# Altium footprint library MBR140SFT1G.PcbLib: 3 footprints
Each footprint in its own frame and in the unit in brackets; x right, y up, seen from the top. Pads: shape width x height; smd on the part's side, far side on the other; paste and mask are expansions set on the pad; w line width, h text height; cw(c..) or ccw(c..) is an arc to the next point about the centre after c.
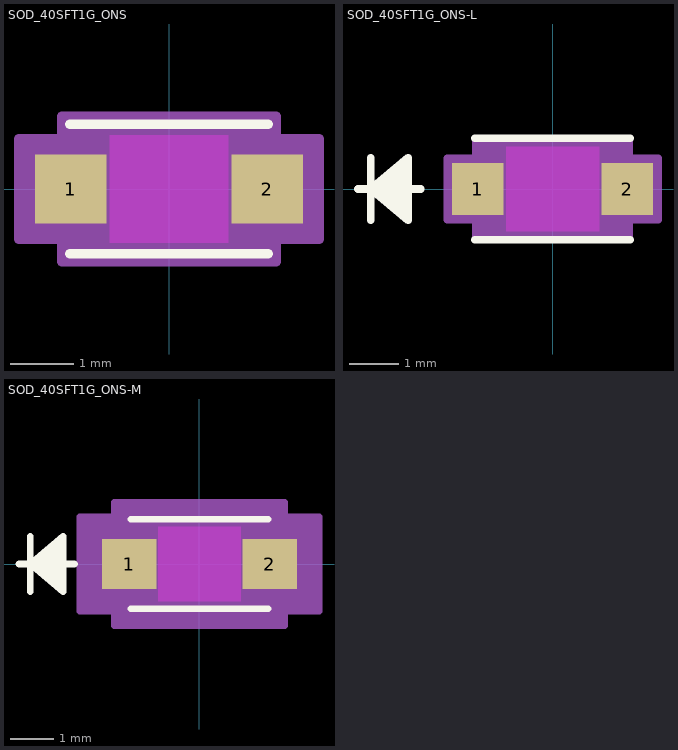
[diagram p0: the footprints below, top view; thin cyan lines are the x and y axes]

## SOD_40SFT1G_ONS [mil]
pads (2):
  rect 44.87x43 smd paste+0 mask+0: 1(-61.44,0) 2(61.44,0)
Top Layer keep-out:
  region: -37,-33.5 -37,33.5 37,33.5 37,-33.5
Top Overlay:
  lines w6: -62,-40.5 62,-40.5 ; -62,40.5 62,40.5
Keep-Out Layer:
  region: -37,-33.5 -37,33.5 37,33.5 37,-33.5
Mechanical 13:
  lines w1: -57,-17.75 -39.25,-35.5 ; -57,17.75 -39.25,35.5 ; -76,-21.5 -57,-21.5 -57,21.5 -76,21.5 -76,-21.5 ; -57,-35.5 -57,35.5 57,35.5 57,-35.5 -57,-35.5 ; 57,-21.5 76,-21.5 76,21.5 57,21.5 57,-21.5
Mechanical 15:
  region: -67,-31.5 -93.87,-31.5 -93.87,31.5 -67,31.5 -67,45.5 67,45.5 67,31.5 93.87,31.5 93.87,-31.5 67,-31.5 67,-45.5 -67,-45.5
  lines w6: -93.87,-31.5 -67,-31.5 -67,-45.5 67,-45.5 67,-31.5 93.87,-31.5 93.87,31.5 67,31.5 67,45.5 -67,45.5 -67,31.5 -93.87,31.5 -93.87,-31.5
3D body "SOD_40SFT1G_ONS.step": height 39.25, standoff 0, extent -75.98,-35.51 75.98,35.51

## SOD_40SFT1G_ONS-L [mil]
pads (2):
  rect 40.94x41.03 smd paste+0 mask+0: 1(-59.47,0) 2(59.47,0)
Top Layer keep-out:
  region: -37,-33.5 -37,33.5 37,33.5 37,-33.5
Top Overlay:
  lines w6: -154.94,0 -104.94,0 ; -144.94,-25 -144.94,25 ; -114.94,-20 -144.94,0 ; -114.94,-15 -144.94,0 ; -114.94,-10 -144.94,0 ; -114.94,-5 -144.94,0 ; -114.94,5 -144.94,0 ; -114.94,10 -144.94,0 ; -114.94,15 -144.94,0 ; -114.94,20 -144.94,0 ; -62,-40.5 62,-40.5 ; -62,40.5 62,40.5 ; -144.94,0 -114.94,25 -114.94,-25 -144.94,0
  text ".Designator" at -137.5,-25 h50
Keep-Out Layer:
  region: -37,-33.5 -37,33.5 37,33.5 37,-33.5
Mechanical 13:
  lines w1: -154.94,0 -104.94,0 ; -144.94,-25 -144.94,25 ; -114.94,-20 -144.94,0 ; -114.94,-15 -144.94,0 ; -114.94,-10 -144.94,0 ; -114.94,-5 -144.94,0 ; -114.94,5 -144.94,0 ; -114.94,10 -144.94,0 ; -114.94,15 -144.94,0 ; -114.94,20 -144.94,0 ; -57,-17.75 -39.25,-35.5 ; -57,17.75 -39.25,35.5 ; -144.94,0 -114.94,25 -114.94,-25 -144.94,0 ; -76,-21.5 -76,21.5 -57,21.5 -57,-21.5 -76,-21.5 ; -57,-35.5 57,-35.5 57,35.5 -57,35.5 -57,-35.5 ; 57,-21.5 57,21.5 76,21.5 76,-21.5 57,-21.5
  text ".Designator" at -137.5,-25 h50
Mechanical 15:
  region: -61,-24.52 -83.94,-24.52 -83.94,24.52 -61,24.52 -61,39.5 61,39.5 61,24.52 83.94,24.52 83.94,-24.52 61,-24.52 61,-39.5 -61,-39.5
  lines w6: -83.94,-24.52 -83.94,24.52 -61,24.52 -61,39.5 61,39.5 61,24.52 83.94,24.52 83.94,-24.52 61,-24.52 61,-39.5 -61,-39.5 -61,-24.52 -83.94,-24.52
3D body "SOD_40SFT1G_ONS.step": height 39.25, standoff 0, extent -75.98,-35.51 75.98,35.51

## SOD_40SFT1G_ONS-M [mil]
pads (2):
  rect 48.81x44.97 smd paste+0 mask+0: 1(-63.41,0) 2(63.41,0)
Top Layer keep-out:
  region: -37,-33.5 -37,33.5 37,33.5 37,-33.5
Top Overlay:
  lines w6: -162.81,0 -112.81,0 ; -152.81,-25 -152.81,25 ; -122.81,-20 -152.81,0 ; -122.81,-15 -152.81,0 ; -122.81,-10 -152.81,0 ; -122.81,-5 -152.81,0 ; -122.81,5 -152.81,0 ; -122.81,10 -152.81,0 ; -122.81,15 -152.81,0 ; -122.81,20 -152.81,0 ; -62,-40.5 62,-40.5 ; -62,40.5 62,40.5 ; -152.81,0 -122.81,25 -122.81,-25 -152.81,0
  text ".Designator" at -137.5,-25 h50
Keep-Out Layer:
  region: -37,-33.5 -37,33.5 37,33.5 37,-33.5
Mechanical 13:
  lines w1: -162.81,0 -112.81,0 ; -152.81,-25 -152.81,25 ; -122.81,-20 -152.81,0 ; -122.81,-15 -152.81,0 ; -122.81,-10 -152.81,0 ; -122.81,-5 -152.81,0 ; -122.81,5 -152.81,0 ; -122.81,10 -152.81,0 ; -122.81,15 -152.81,0 ; -122.81,20 -152.81,0 ; -57,-17.75 -39.25,-35.5 ; -57,17.75 -39.25,35.5 ; -152.81,0 -122.81,25 -122.81,-25 -152.81,0 ; -76,-21.5 -76,21.5 -57,21.5 -57,-21.5 -76,-21.5 ; -57,-35.5 57,-35.5 57,35.5 -57,35.5 -57,-35.5 ; 57,-21.5 57,21.5 76,21.5 76,-21.5 57,-21.5
  text ".Designator" at -137.5,-25 h50
Mechanical 15:
  region: -77,-42.48 -107.81,-42.48 -107.81,42.48 -77,42.48 -77,55.5 77,55.5 77,42.48 107.81,42.48 107.81,-42.48 77,-42.48 77,-55.5 -77,-55.5
  lines w6: -107.81,-42.48 -107.81,42.48 -77,42.48 -77,55.5 77,55.5 77,42.48 107.81,42.48 107.81,-42.48 77,-42.48 77,-55.5 -77,-55.5 -77,-42.48 -107.81,-42.48
3D body "SOD_40SFT1G_ONS.step": height 39.25, standoff 0, extent -75.98,-35.51 75.98,35.51